# Altium footprint library Stove_Light.PcbLib: 127 footprints (part 2 of 8)
Each footprint in its own frame and in the unit in brackets; x right, y up, seen from the top. Pads: shape width x height; smd on the part's side, far side on the other; paste and mask are expansions set on the pad; w line width, h text height; cw(c..) or ccw(c..) is an arc to the next point about the centre after c.
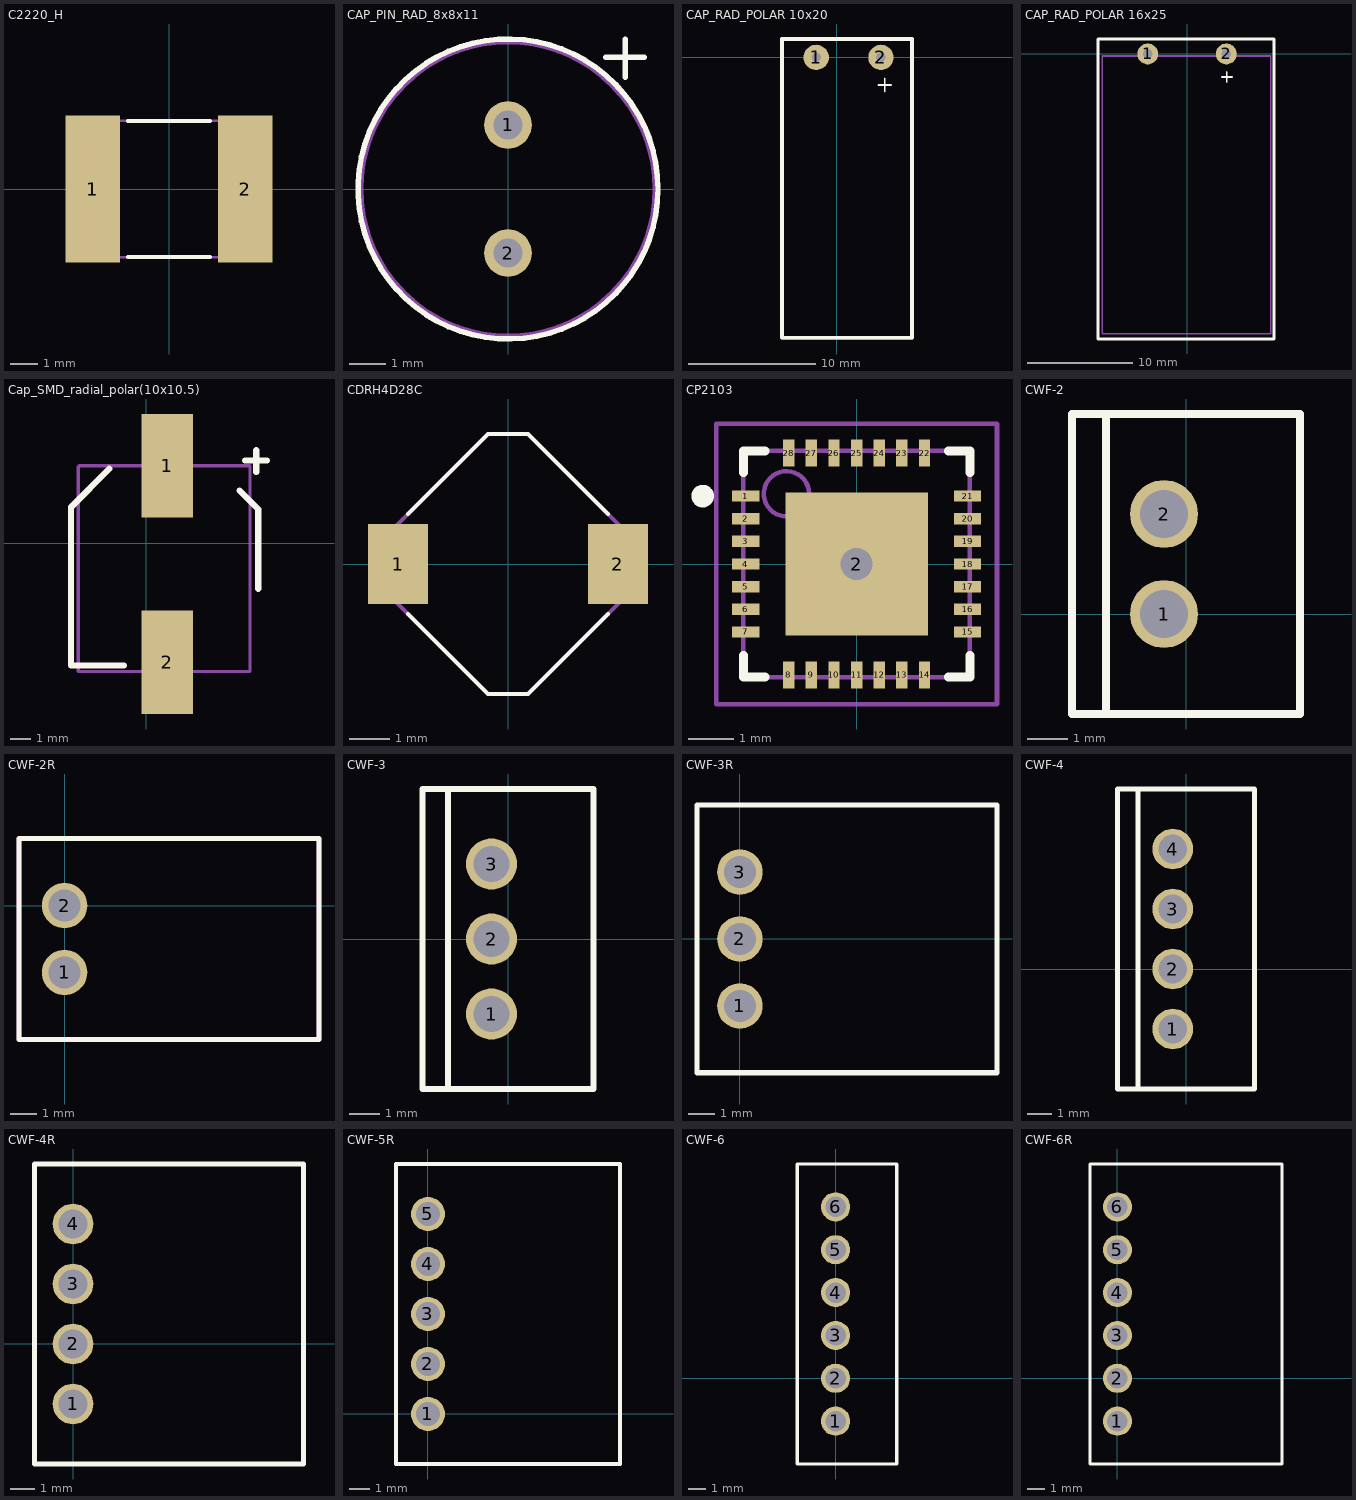
[diagram p1: the footprints below, top view; thin cyan lines are the x and y axes]

## C2220_H [mm]
height 1.8
pads (2):
  rect 2x5.4 smd: 1(-2.8,0) 2(2.8,0)
Top Overlay:
  lines w0.15: -1.5,-2.5 1.5,-2.5 ; -1.5,2.5 1.5,2.5
Mechanical 7:
  lines w0.1: -2.8,-2.5 2.8,-2.5 2.8,2.5 -2.8,2.5 -2.8,-2.5
Mechanical 10:
  text ".Comment" at -0.47,-3.45 h0.6
  text ".Designator" at -0.56,3.04 h0.8
3D body: height 1.8, standoff 0, extent -2.8,-2.5 2.8,2.5

## CAP_PIN_RAD_8x8x11 [mm]
pads (2):
  round 1.3 hole 0.8: 1(0,1.75) 2(0,-1.75)
Top Overlay:
  circle w0.15: c0,0 r4.1
  lines w0.15: 2.675,3.6 3.725,3.6 ; 3.2,3.05 3.2,4.1
Mechanical 7:
  circle w0.1: c0,0 r4
Mechanical 9:
  circle w0.1: c0,0 r4
Mechanical 10:
  text ".Comment" at 1,-4.75 h0.6
  text ".Designator" at 0.75,4.75 h0.8
3D body: height 12, standoff 0.5, extent -3.968,-3.992 4,3.992

## CAP_RAD_POLAR 10x20 [mm] "10x20x5"
height 14.5
pads (2):
  round 2 hole 0.75: 1(-1.6,-0.025) 2(3.5,-0.025)
Top Overlay:
  lines w0.15: 3.3,-2.2 4.3,-2.2 ; 3.8,-2.7 3.8,-1.7
  lines w0.3: -4.3,-22.1 5.95,-22.1 5.95,1.425 -4.3,1.425 -4.3,-22.1
Mechanical 9:
  text ".Comment" at 1.275,-3.275 h0.7
  text ".Designator" at 0.95,-7.375 h0.7
Mechanical 11:
  lines w0.15: -4.3,-22.2 -4.3,1.425 5.95,1.425 5.95,-22.2 -4.3,-22.2
3D body: height 10, standoff 0, extent -3.998,-21.9 5.998,-0.4

## CAP_RAD_POLAR 16x25 [mm] "16x25x5"
height 14.5
pads (2):
  round 2 hole 0.9: 1(-3.75,0) 2(3.75,0)
Top Overlay:
  lines w0.15: 3.3,-2.2 4.3,-2.2 ; 3.8,-2.7 3.8,-1.7
  lines w0.3: -8.5,-27.2 8.3,-27.2 8.3,1.425 -8.5,1.425 -8.5,-27.2
Mechanical 9:
  text ".Comment" at 1.275,-3.275 h0.7
  text ".Designator" at 0.95,-7.375 h0.7
Mechanical 11:
  lines w0.15: -8.1,-26.7 -8.1,-0.2 8,-0.2 8,-26.7 -8.1,-26.7
3D body: height 16.5, standoff 0.5, extent -8.097,-26.7 7.897,-0.2

## Cap_SMD_radial_polar(10x10.5) [mm] "ECAP SMD, 220 мкФ, 35В"
height 10
pads (2):
  rect 2.5x5 smd: 1(1,3.75) 2(1,-5.75)
Top Overlay:
  lines w0.3: -1.8,3.6 -3.65,1.75 -3.65,-4.05 -3.65,-5.9 -1.1,-5.9 ; 4.5,2.55 5.4,1.65 5.4,-2.2 ; 4.775,4 5.825,4 ; 5.3,3.45 5.3,4.5
Mechanical 7:
  lines w0.15: -3.3,-6.2 -3.3,3.7 -3.25,3.75 5,3.75 5,-6.2 -3.3,-6.2
3D body: height 10.2, standoff 0, extent -3.25,-6.15 5.05,3.75

## CDRH4D28C [mm]
height 3
pads (2):
  rect 1.5x2 smd mask+0: 1(-2.75,0) 2(2.75,0)
Top Overlay:
  lines w0.1: -2.5,-1.25 -0.5,-3.25 0.5,-3.25 2.5,-1.25 ; -2.5,1.25 -0.5,3.25 0.5,3.25 2.5,1.25
Mechanical 7:
  lines w0.1: -3,-0.75 -0.5,-3.25 0.5,-3.25 3,-0.75 3,-0.125 3,0.125 3,0.75 0.5,3.25 0,3.25 -0.5,3.25 -3,0.75 -3,-0.75
Mechanical 10:
  text ".Comment" at 1.5,-3.5 h0.6
  text ".Designator" at -3.5,3.75 h0.8
3D body: height 3, standoff 0, extent -3,-3.25 3,3.25

## CP2103 [mm] "QFN, 28-Leads, Body 5,0x5,0mm (max), Pitch 0,50mm, IPC Medium Density"
height 1
pads (29):
  rect 0.6x0.25 smd: 1(-2.45,1.5) 2(-2.45,1) 3(-2.45,0.5) 4(-2.45,0) 5(-2.45,-0.5) 6(-2.45,-1) 7(-2.45,-1.5) 15(2.45,-1.5) 16(2.45,-1) 17(2.45,-0.5) 18(2.45,0) 19(2.45,0.5) 20(2.45,1) 21(2.45,1.5)
  rect 3.15x3.15 smd: 2(0,0)
  rect 0.25x0.6 smd: 8(-1.5,-2.45) 9(-1,-2.45) 10(-0.5,-2.45) 11(0,-2.45) 12(0.5,-2.45) 13(1,-2.45) 14(1.5,-2.45) 22(1.5,2.45) 23(1,2.45) 24(0.5,2.45) 25(0,2.45) 26(-0.5,2.45) 27(-1,2.45) 28(-1.5,2.45)
via 0,0 diameter 1.27 hole 0.711
Top Overlay:
  circle w0.25: c-3.4,1.5 r0.125
  lines w0.2: -2.5,-2.025 -2.5,-2.5 -2.025,-2.5 ; -2.5,2.025 -2.5,2.5 -2.025,2.5 ; 2.025,-2.5 2.5,-2.5 2.5,-2.025 ; 2.025,2.5 2.5,2.5 2.5,2.025
Mechanical 13:
  circle w0.1: c-1.55,1.55 r0.5
  lines w0.1: -2.5,-2.5 -2.5,2.5 2.5,2.5 2.5,-2.5 -2.5,-2.5
Mechanical 15:
  lines w0.1: -0.5,0 0.5,0 ; 0,-0.5 0,0.5 ; -3.1,-3.1 -3.1,3.1 3.1,3.1 3.1,-3.1 -3.1,-3.1
3D body: height 1, standoff 0.11, extent -2.5,-2.5 2.5,2.5

## CWF-2 [mm]
pads (2):
  round 1.7 hole 1.2: 1(-0.55,0) 2(-0.55,2.5)
Top Overlay:
  lines w0.2: -2,-2.5 -2,5 ; -2.85,-2.5 2.85,-2.5 2.85,5 -2.85,5 -2.85,-2.5
Mechanical 9:
  text ".Comment" at -2.65,6.525 h1
  text ".Designator" at -2.65,5.65 h1
Mechanical 11:
  lines w0.15: -2,-2.5 -2,5 ; -2.85,-2.5 -2.85,5 2.85,5 2.85,-2.5 -2.85,-2.5
3D body "CWF_2_V.STEP": height 7.7, standoff -1, extent -2.8,-2.45 2.9,5.05

## CWF-2R [mm]
pads (2):
  round 1.7 hole 1.2: 1(0,-2.5) 2(0,0)
Top Overlay:
  lines w0.2: -1.7,-5 -1.7,2.5 9.5,2.5 9.5,-5 -1.7,-5
Mechanical 7:
  lines w0.2: -1.7,-5 9.5,-5 9.5,2.5 -1.7,2.5 -1.7,-5
Mechanical 10:
  text ".Comment" at 0.025,4.6 h1
  text ".Designator" at 0.025,3.65 h1
3D body: height 5.7, standoff -1.5, extent -1.55,-4.975 9.35,2.525

## CWF-3 [mm]
pads (3):
  round 1.7 hole 1.2: 1(-0.55,-2.5) 2(-0.55,0) 3(-0.55,2.5)
Top Overlay:
  lines w0.2: -2,-5 -2,5 ; -2.85,-5 2.85,-5 2.85,5 -2.85,5 -2.85,-5
3D body "CWF_3_V.STEP": height 7.7, standoff -1, extent -2.9,-5 2.8,5

## CWF-3R [mm]
pads (3):
  round 1.7 hole 1.2: 1(0,-2.5) 2(0,0) 3(0,2.5)
Top Overlay:
  lines w0.2: -1.6,-5 9.6,-5 9.6,5 -1.6,5 -1.6,-5
3D body: height 5.7, standoff -1.5, extent -1.5,-5 9.4,5

## CWF-4 [mm]
pads (4):
  round 1.7 hole 1.2: 1(-0.55,-2.5) 2(-0.55,0) 3(-0.55,2.5) 4(-0.55,5)
Top Overlay:
  lines w0.2: -2,-5 -2,7.5 ; -2.85,-5 2.85,-5 2.85,7.5 -2.85,7.5 -2.85,-5
3D body "CWF_4_V.STEP": height 7.7, standoff -1, extent -2.8,-5.05 2.9,7.45

## CWF-4R [mm]
pads (4):
  round 1.7 hole 1.2: 1(0,-2.5) 2(0,0) 3(0,2.5) 4(0,5)
Top Overlay:
  lines w0.2: -1.6,-5 -1.6,7.5 9.6,7.5 9.6,-5 -1.6,-5
3D body: height 1, standoff -6.2, extent -1.5,-5 9.4,7.5

## CWF-5R [mm]
pads (5):
  round 1.7 hole 1.2: 1(0,0) 2(0,2.5) 3(0,5) 4(0,7.5) 5(0,10)
Top Overlay:
  lines w0.2: -1.6,-2.5 9.6,-2.5 9.6,12.5 -1.6,12.5 -1.6,-2.5
3D body: height 5.7, standoff -1.5, extent -1.45,-2.5 9.45,12.5

## CWF-6 [mm]
pads (6):
  round 1.7 hole 1.2: 1(0,-2.5) 2(0,0) 3(0,2.5) 4(0,5) 5(0,7.5) 6(0,10)
Top Overlay:
  lines w0.2: -2.25,-5 -2.25,12.5 3.575,12.5 3.575,-5 -2.25,-5
3D body "User Library-CWF-6.step": height 7, standoff -3.5, extent -2.2,-4.975 3.55,12.525

## CWF-6R [mm]
pads (6):
  round 1.7 hole 1.2: 1(0,-2.5) 2(0,0) 3(0,2.5) 4(0,5) 5(0,7.5) 6(0,10)
Top Overlay:
  lines w0.2: -1.6,-5 -1.6,12.5 9.6,12.5 9.6,-5 -1.6,-5
3D body: height 5.7, standoff -1.5, extent -1.45,-5 9.45,12.5